# EAGLE library part AD5322 (library Radicon)
AD5302/AD5312/AD5322 +2.5 V to +5.5 V, 230 mA Dual Rail-to-Rail, Voltage Output 8-/10-/12-Bit DACs
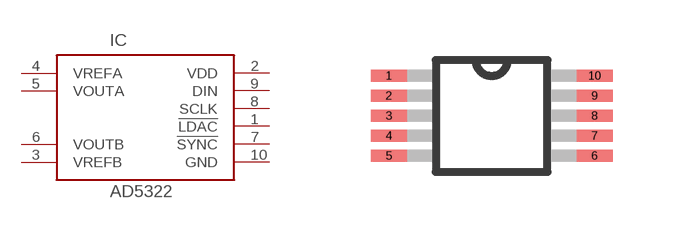
[diagram p21: symbol with the pads of USOIC10; footprint USOIC10]

Designator prefix IC

## AD5322  [USOIC10]
1  !LDAC  pas
2  VDD  pas
3  VREFB  pas
4  VREFA  pas
5  VOUTA  pas
6  VOUTB  pas
7  !SYNC  pas
8  SCLK  pas
9  DIN  pas
10  GND  pas

## Footprint USOIC10 (pad centres in mm)
USOIC10 Auto generated by make-symbol-device-package-bsdl.ulp Rev. 29
smd 0.9 x 0.3: 1 -2.575,1; 2 -2.575,0.5; 3 -2.575,0; 4 -2.575,-0.5; 5 -2.575,-1; 6 2.575,-1; 7 2.575,-0.5; 8 2.575,0; 9 2.575,0.5; 10 2.575,1